# EAGLE library part ATMEL_MLRZERO (library button_lib)
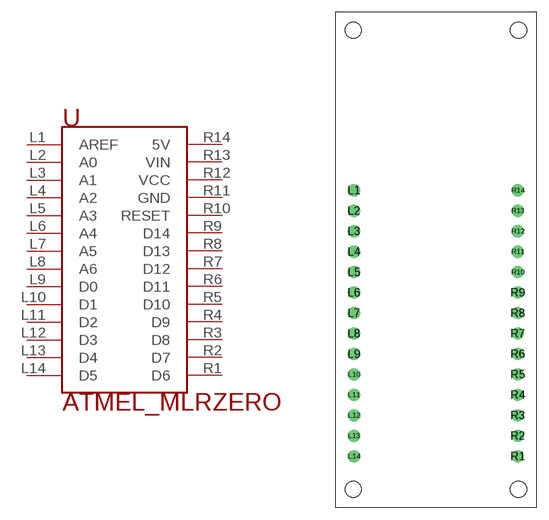
[diagram p2: symbol with the pads of ARDUINO_MKR; footprint ARDUINO_MKR]

Designator prefix U

## ATMEL_MLRZERO (VALUE: MKRZERO)  [ARDUINO_MKR]
L1  AREF
L2  A0
L3  A1
L4  A2
L5  A3
L6  A4
L7  A5
L8  A6
L9  D0
L10  D1
L11  D2
L12  D3
L13  D4
L14  D5
R1  D6
R2  D7
R3  D8
R4  D9
R5  D10
R6  D11
R7  D12
R8  D13
R9  D14
R10  RESET
R11  GND
R12  VCC
R13  VIN
R14  5V

## Footprint ARDUINO_MKR (pad centres in mm)
drill 1 pad 1.5: L1 2.34,39.37; L2 2.34,36.83; L3 2.34,34.29; L4 2.34,31.75; L5 2.34,29.21; L6 2.34,26.67; L7 2.34,24.13; L8 2.34,21.59; L9 2.34,19.05; L10 2.34,16.51; L11 2.34,13.97; L12 2.34,11.43; L13 2.34,8.89; L14 2.34,6.35; R1 22.66,6.35; R2 22.66,8.89; R3 22.66,11.43; R4 22.66,13.97; R5 22.66,16.51; R6 22.66,19.05; R7 22.66,21.59; R8 22.66,24.13; R9 22.66,26.67; R10 22.66,29.21; R11 22.66,31.75; R12 22.66,34.29; R13 22.66,36.83; R14 22.66,39.37
hole 2 at 2.25,2.25
hole 2 at 22.75,2.25
hole 2 at 22.75,59.25
hole 2 at 2.25,59.25